# EAGLE library part TEMP (library RadEagleLibrary)
Temp part to try saving parts to github
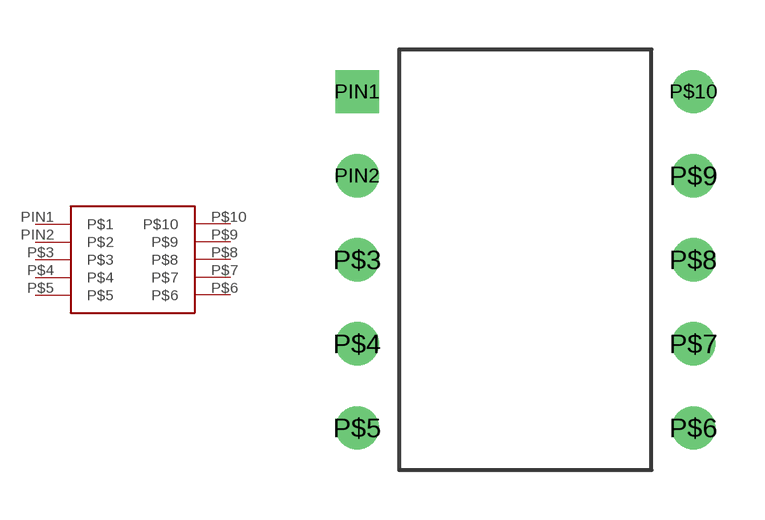
[diagram p0: symbol with the pads of TEMP; footprint TEMP]

Designator prefix -

## TEMP  [TEMP]
P$3  P$3
P$4  P$4
P$5  P$5
P$6  P$6
P$7  P$7
P$8  P$8
P$9  P$9
P$10  P$10
PIN1  P$1
PIN2  P$2

## Footprint TEMP (pad centres in mm)
drill 0.8: P$3 -5.08,0; P$4 -5.08,-2.54; P$5 -5.08,-5.08; P$6 5.08,-5.08; P$7 5.08,-2.54; P$8 5.08,0; P$9 5.08,2.54; P$10 5.08,5.08; PIN2 -5.08,2.54
drill 0.8 square: PIN1 -5.08,5.08